# Altium schematic symbol library MergenElektronik_Diodes_SingleDiodes.SchLib: 2 symbols
Pins are listed as number, name and electrical type; pins without a type are passive.

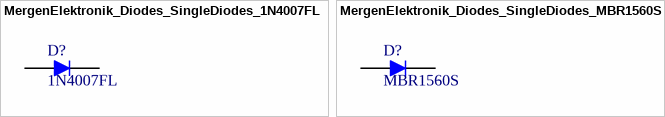
[diagram p0: symbols MergenElektronik_Diodes_SingleDiodes_1N4007FL to MergenElektronik_Diodes_SingleDiodes_MBR1560S]

## MergenElektronik_Diodes_SingleDiodes_1N4007FL
designator D?, comment 1N4007FL
Mergen Elektronik - Diodes - Single Diodes - 1N4007FL; Manufacturer: SMC Diode Solutions; Voltage Rated: 1000V; Current Rating: 1A; Digi-Key Number: 1655-1N4007FLCT-ND; Manufacturer Number: 1N4007FL; Model: Single Diodes; Mounting Type: Surface Mount; Package: SOD-123F; Temperature: -65°C up to +150°C; Supplier 1: Digi-Key; Supplier Part Number 1: 1655-1N4007FLCT-ND
footprint MergenElektronik_Diodes_SingleDiodes_SOD-123F (SOD-123F)
pins: 1 ANOT, 2 KATOT

## MergenElektronik_Diodes_SingleDiodes_MBR1560S
designator D?, comment MBR1560S
Mergen Elektronik - Diodes - Single Diodes - MBR1560S; Manufacturer: SMC Diode Solutions; Voltage Rated: 60V; Current Rating: 15A; Digi-Key Number: 1655-MBR1560SCT-ND; Manufacturer Number: MBR1560S; Model: Single Diodes; Mounting Type: Surface Mount; Package: TO-277B; Temperature: -55°C up to +150°C; Supplier 1: Digi-Key; Supplier Part Number 1: 1655-MBR1560SCT-ND
footprint MergenElektronik_Diodes_SingleDiodes_TO-277B (TO-277B)
pins: 1 ANOT, 2 KATOT